# Altium schematic symbol library SCH - Diode.Ideal - LM66100.SCHLIB: 1 symbol
Pins are listed as number, name and electrical type; pins without a type are passive.

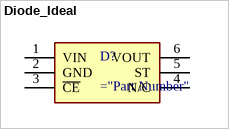
[diagram p0: symbol Diode_Ideal]

## Diode_Ideal
designator D?
Zener Diode
pins: 1 VIN, 2 GND, 3 ~{CE}, 4 N/C, 5 ST, 6 VOUT